# Altium schematic symbol library 10000pF-Cap.SchLib: 2 symbols
Pins are listed as number, name and electrical type; pins without a type are passive.

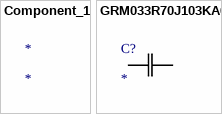
[diagram p0: symbols Component_1 to GRM033R70J103KA0]

## Component_1
designator *

## GRM033R70J103KA0
designator C?
Imported; Manufacturer_Part_Number: GRM033R70J103KA01D; Vendor: Murata; Built_By: EMA_UL_Team; Type: DEV; C: Copyright (C) 2015 Accelerated Designs. All rights reserved; RefDes: RefDes; Value: Value
footprint G-033
pins: 1, 2